# EAGLE library part JW2SN-DC12V (library parts)
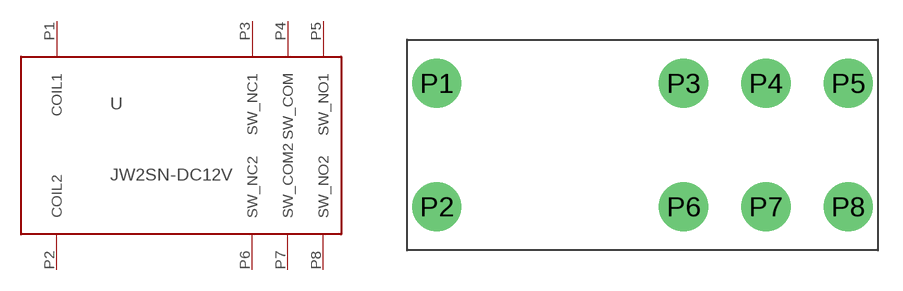
[diagram p11: symbol with the pads of JW2FORMC; footprint JW2FORMC]

Designator prefix -

## JW2SN-DC12V  [JW2FORMC]
P1  COIL1
P2  COIL2
P3  SW_NC1
P4  SW_COM
P5  SW_NO1
P6  SW_NC2
P7  SW_COM2
P8  SW_NO2

## Footprint JW2FORMC (pad centres in mm)
drill 1.5 pad 3: P1 -12.5,3.75; P2 -12.5,-3.75; P3 2.5,3.75; P4 7.5,3.75; P5 12.5,3.75; P6 2.5,-3.75; P7 7.5,-3.75; P8 12.5,-3.75